# EAGLE library part LPC11U35FHN33/501 (library ir-control)
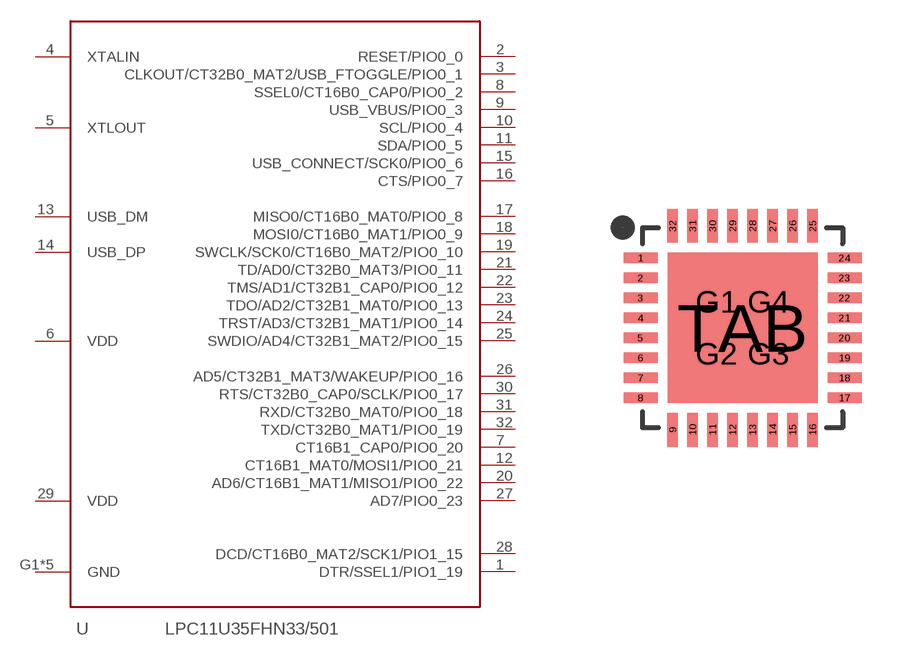
[diagram p0: symbol with the pads of HVQFN33-5MM; footprint HVQFN33-5MM]

Designator prefix U

## LPC11U35FHN33/501  [HVQFN33-5MM]
1  DTR/SSEL1/PIO1_19
2  RESET/PIO0_0
3  CLKOUT/CT32B0_MAT2/USB_FTOGGLE/PIO0_1
4  XTALIN
5  XTLOUT
6  VDD
7  CT16B1_CAP0/PIO0_20
8  SSEL0/CT16B0_CAP0/PIO0_2
9  USB_VBUS/PIO0_3
10  SCL/PIO0_4
11  SDA/PIO0_5
12  CT16B1_MAT0/MOSI1/PIO0_21
13  USB_DM
14  USB_DP
15  USB_CONNECT/SCK0/PIO0_6
16  CTS/PIO0_7
17  MISO0/CT16B0_MAT0/PIO0_8
18  MOSI0/CT16B0_MAT1/PIO0_9
19  SWCLK/SCK0/CT16B0_MAT2/PIO0_10
20  AD6/CT16B1_MAT1/MISO1/PIO0_22
21  TD/AD0/CT32B0_MAT3/PIO0_11
22  TMS/AD1/CT32B1_CAP0/PIO0_12
23  TDO/AD2/CT32B1_MAT0/PIO0_13
24  TRST/AD3/CT32B1_MAT1/PIO0_14
25  SWDIO/AD4/CT32B1_MAT2/PIO0_15
26  AD5/CT32B1_MAT3/WAKEUP/PIO0_16
27  AD7/PIO0_23
28  DCD/CT16B0_MAT2/SCK1/PIO1_15
29  VDD
30  RTS/CT32B0_CAP0/SCLK/PIO0_17
31  RXD/CT32B0_MAT0/PIO0_18
32  TXD/CT32B0_MAT1/PIO0_19
G1  GND
G2  GND
G3  GND
G4  GND
TAB  GND

## Footprint HVQFN33-5MM (pad centres in mm)
HVQFN-33 7x7x0.85mm Plastic Thermal Enhanced Very Thin Quad Flat package
smd 0.85 x 0.27: 1 -2.55,1.75; 2 -2.55,1.25; 3 -2.55,0.75; 4 -2.55,0.25; 5 -2.55,-0.25; 6 -2.55,-0.75; 7 -2.55,-1.25; 8 -2.55,-1.75; 17 2.55,-1.75; 18 2.55,-1.25; 19 2.55,-0.75; 20 2.55,-0.25; 21 2.55,0.25; 22 2.55,0.75; 23 2.55,1.25; 24 2.55,1.75
smd 0.27 x 0.85: 9 -1.75,-2.55; 10 -1.25,-2.55; 11 -0.75,-2.55; 12 -0.25,-2.55; 13 0.25,-2.55; 14 0.75,-2.55; 15 1.25,-2.55; 16 1.75,-2.55; 25 1.75,2.55; 26 1.25,2.55; 27 0.75,2.55; 28 0.25,2.55; 29 -0.25,2.55; 30 -0.75,2.55; 31 -1.25,2.55; 32 -1.75,2.55
drill 0.33 pad 0.6: G1 -0.65,0.65; G2 -0.65,-0.65; G3 0.65,-0.65; G4 0.65,0.65
smd 3.75 x 3.75: TAB 0,0